# Altium integrated library ULN2803A.IntLib: 1 symbol
Pins are listed as number, name and electrical type; pins without a type are passive.

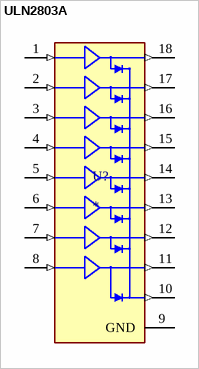
[diagram p0: symbol ULN2803A]

## ULN2803A
designator U?
Bipolar (BJT) Transistor Array 8 NPN Darlington 50V 500mA 2.25W Through Hole 18-DIP; MP: ULN2803A; Package: None; Availability: Unavailable; Value: *; Price: None
footprint DIP850W46P254L2324H393Q18
pins: 1 IN_1 (in), 2 IN_2 (in), 3 IN_3 (in), 4 IN_4 (in), 5 IN_5 (in), 6 IN_6 (in), 7 IN_7 (in), 8 IN_8 (in), 9 GND (power), 10 COMMON (out), 11 OUT_8 (out), 12 OUT_7 (out), 13 OUT_6 (out), 14 OUT_5 (out), 15 OUT_4 (out), 16 OUT_3 (out), 17 OUT_2 (out), 18 OUT_1 (out)